# EAGLE library part MGC3130 (library pimoroni)
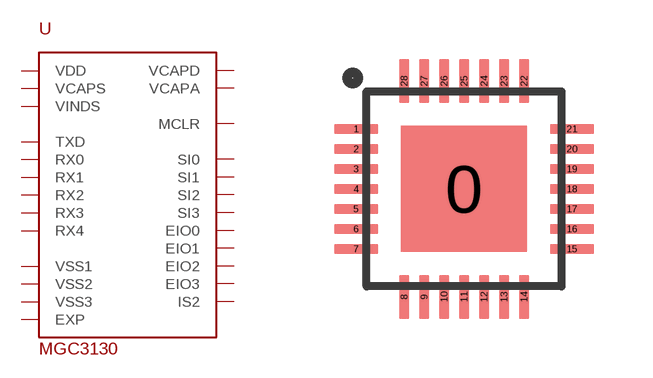
[diagram p18: symbol with the pads of QFN-28; footprint QFN-28]

Designator prefix -

## MGC3130  [QFN-28]
0  EXP
1  VCAPS
2  VINDS
3  VSS2
4  RX0
5  RX1
6  RX2
7  RX3
8  RX4
9  VCAPA
10  VSS3
11  VCAPD
12  EIO0
13  EIO1
14  EIO2
15  IS2
19  EIO3
20  SI0
21  SI1
22  SI2
23  SI3
24  MCLR
25  TXD
27  VSS1
28  VDD

## Footprint QFN-28 (pad centres in mm)
smd 3.15 x 3.15: 0 0,0
smd 1.108 x 0.254: 1 -2.7,1.5; 2 -2.7,1; 3 -2.7,0.5; 4 -2.7,0; 5 -2.7,-0.5; 6 -2.7,-1; 7 -2.7,-1.5; 15 2.7,-1.5; 16 2.7,-1; 17 2.7,-0.5; 18 2.7,0; 19 2.7,0.5; 20 2.7,1; 21 2.7,1.5
smd 0.254 x 1.108: 8 -1.5,-2.7; 9 -1,-2.7; 10 -0.5,-2.7; 11 0,-2.7; 12 0.5,-2.7; 13 1,-2.7; 14 1.5,-2.7; 22 1.5,2.7; 23 1,2.7; 24 0.5,2.7; 25 0,2.7; 26 -0.5,2.7; 27 -1,2.7; 28 -1.5,2.7